# Altium schematic symbol library L70-RL.SchLib: 1 symbol
Pins are listed as number, name and electrical type; pins without a type are passive.

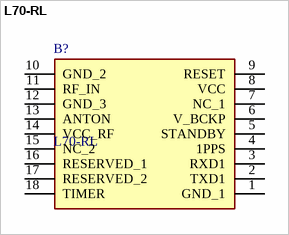
[diagram p0: symbol L70-RL]

## L70-RL
designator B?
GPS Module with Built-in LNA SMD - Tape and Reel; Manufacturer_Name: Quectel; Geometry.Height: 2.65mm; Manufacturer_Part_Number: L70-RL; Mouser Part Number: *; Mouser Price/Stock: *; Arrow Part Number: *; Arrow Price/Stock: *; Datasheet Link: *
footprint L70RL
pins: 1 GND_1, 2 TXD1, 3 RXD1, 4 1PPS, 5 STANDBY, 6 V_BCKP, 7 NC_1, 8 VCC, 9 RESET, 10 GND_2, 11 RF_IN, 12 GND_3, 13 ANTON, 14 VCC_RF, 15 NC_2, 16 RESERVED_1, 17 RESERVED_2, 18 TIMER